# Altium footprint library 0603L.PcbLib: 1 footprints
Each footprint in its own frame and in the unit in brackets; x right, y up, seen from the top. Pads: shape width x height; smd on the part's side, far side on the other; paste and mask are expansions set on the pad; w line width, h text height; cw(c..) or ccw(c..) is an arc to the next point about the centre after c.
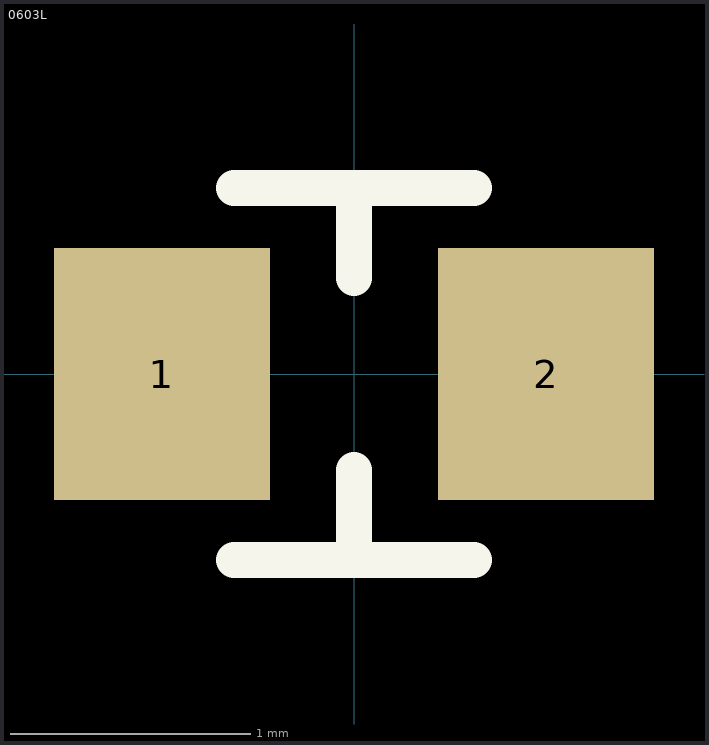
[diagram p0: the footprint, top view; thin cyan lines are the x and y axes]

## 0603L [mm] "Chip Inductor, 2-Leads, Body 1,55x0,85mm, IPC Medium Density"
height 0.45
pads (2):
  rect 0.9x1.05 smd: 1(-0.8,0) 2(0.8,0)
Top Overlay:
  lines w0.15: -0.5,-0.775 0.5,-0.775 ; -0.5,0.775 0.5,0.775 ; 0,-0.7 0,-0.4 ; 0,0.4 0,0.7
Mechanical 13:
  text ".Designator" at -1.85,1.075 h2.15
3D body "0603L.step": height 0.45, standoff 0, extent -0.8,-0.45 0.8,0.45